# Altium footprint library LT3436.PcbLib: 1 footprints
Each footprint in its own frame and in the unit in brackets; x right, y up, seen from the top. Pads: shape width x height; smd on the part's side, far side on the other; paste and mask are expansions set on the pad; w line width, h text height; cw(c..) or ccw(c..) is an arc to the next point about the centre after c.
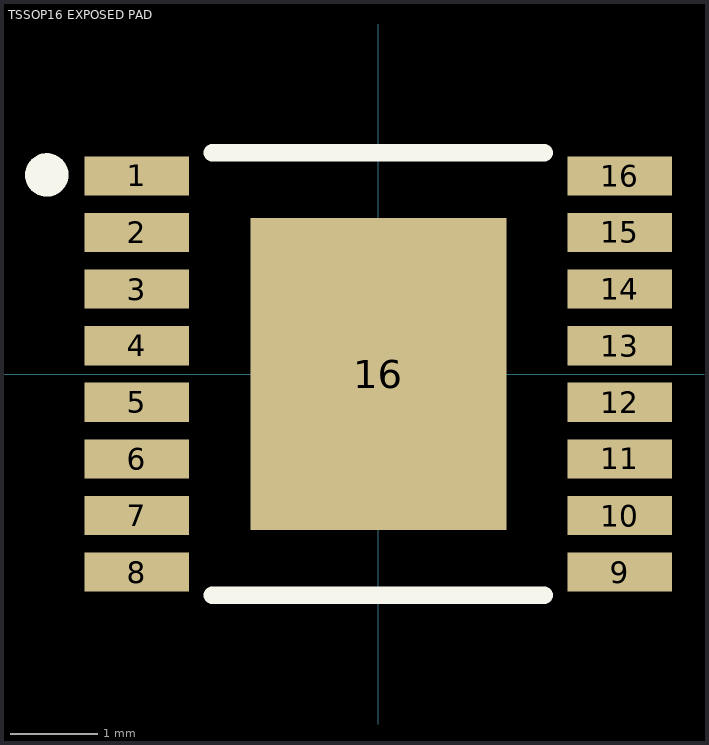
[diagram p0: the footprint, top view; thin cyan lines are the x and y axes]

## TSSOP16 EXPOSED PAD [mm] "Linear Technology LT3436 - TSSOP 16 Lead Exposed Pad"
height 1.1
pads (17):
  rect 1.2x0.45 smd: 1(-2.775,2.275) 2(-2.775,1.625) 3(-2.775,0.975) 4(-2.775,0.325) 5(-2.775,-0.325) 6(-2.775,-0.975) 7(-2.775,-1.625) 8(-2.775,-2.275) 9(2.775,-2.275) 10(2.775,-1.625) 11(2.775,-0.975) 12(2.775,-0.325) 13(2.775,0.325) 14(2.775,0.975) 15(2.775,1.625) 16(2.775,2.275)
  rect 2.94x3.58 smd paste-1000: 16(0,0)
Top Overlay:
  circle w0.25: c-3.808,2.286 r0.125
  lines w0.2: -1.905,-2.54 1.905,-2.54 ; -1.905,2.54 1.905,2.54
Top Paste:
  rectangle: -1.143,-1.397 -0.127,-0.254
  rectangle: 0.127,-1.397 1.143,-0.254
  rectangle: 0.127,0.254 1.143,1.397
  rectangle: -1.143,0.254 -0.127,1.397
Mechanical 15:
  lines w0.1: -0.5,0 0.5,0 ; 0,-0.5 0,0.5
3D body: height 1.1, standoff 0.05, extent -2.25,-2.55 2.25,2.55